# Altium schematic symbol library B36L3RGB-F6C0001HOU1930.SchLib: 1 symbol
Pins are listed as number, name and electrical type; pins without a type are passive.

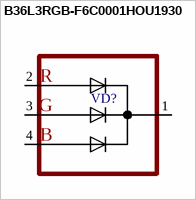
[diagram p0: symbol B36L3RGB-F6C0001HOU1930]

## B36L3RGB-F6C0001HOU1930
designator VD?
pins: 1, 2, 3, 4
text: R; G; B